# EAGLE library part ADS1244 (library X893)
http://www.ti.com/product/ads1244
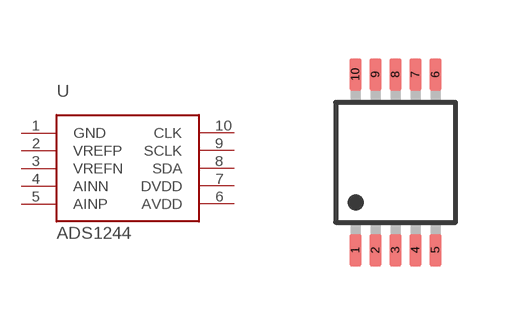
[diagram p134: symbol with the pads of MSOP10; footprint MSOP10]

Designator prefix U

## ADS1244  [MSOP10]
1  GND  sup
2  VREFP  pas
3  VREFN  pas
4  AINN  pas
5  AINP  pas
6  AVDD  pas
7  DVDD  pas
8  SDA
9  SCLK  in
10  CLK  in

## Footprint MSOP10 (pad centres in mm)
smd 0.3 x 0.8: 1 -1,-2.2; 2 -0.5,-2.2; 3 0,-2.2; 4 0.5,-2.2; 5 1,-2.2; 6 1,2.2; 7 0.5,2.2; 8 0,2.2; 9 -0.5,2.2; 10 -1,2.2